# Altium footprint library IS-uIG-1.PcbLib: 1 footprints
Each footprint in its own frame and in the unit in brackets; x right, y up, seen from the top. Pads: shape width x height; smd on the part's side, far side on the other; paste and mask are expansions set on the pad; w line width, h text height; cw(c..) or ccw(c..) is an arc to the next point about the centre after c.
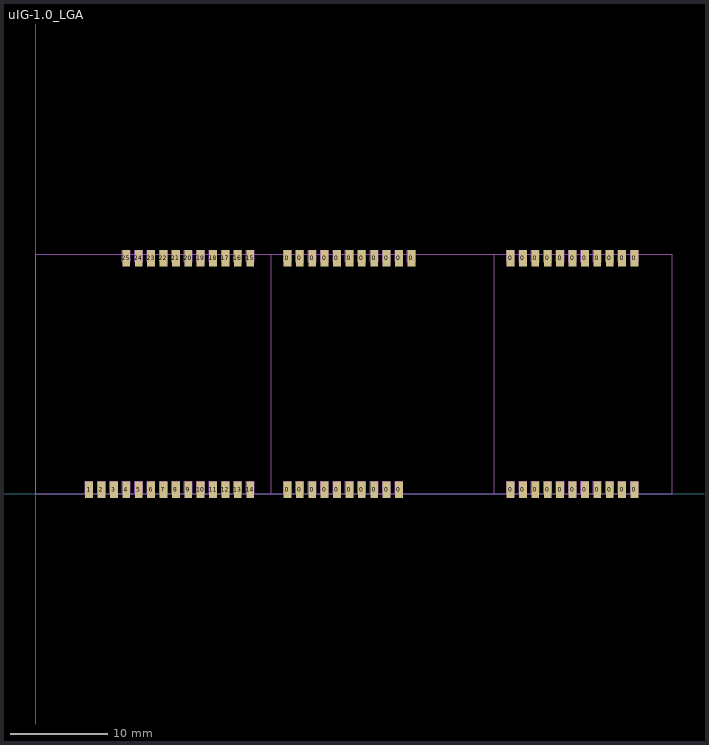
[diagram p0: the footprint, top view; thin cyan lines are the x and y axes]

## uIG-1.0_LGA [mm]
pads (68):
  rect 0.8x1.7 smd paste-2.54: 0(25.777,24.1) 0(25.777,0.4) 0(27.047,24.1) 0(27.047,0.4) 0(28.317,24.1) 0(28.317,0.4) 0(29.587,24.1) 0(29.587,0.4) 0(30.857,24.1) 0(30.857,0.4) 0(32.127,24.1) 0(32.127,0.4) 0(33.397,24.1) 0(33.397,0.4) 0(34.667,24.1) 0(34.667,0.4) 0(35.937,24.1) 0(35.937,0.4) 0(37.207,24.1) 0(37.207,0.4) 0(38.477,24.1) 0(48.637,24.1) 0(48.637,0.4) 0(49.907,24.1) 0(49.907,0.4) 0(51.177,24.1) 0(51.177,0.4) 0(52.447,24.1) 0(52.447,0.4) 0(53.717,24.1) 0(53.717,0.4) 0(54.987,24.1) 0(54.987,0.4) 0(56.257,24.1) 0(56.257,0.4) 0(57.527,24.1) 0(57.527,0.4) 0(58.797,24.1) 0(58.797,0.4) 0(60.067,24.1) 0(60.067,0.4) 0(61.337,24.1) 0(61.337,0.4) 1(5.457,0.4) 2(6.727,0.4) 3(7.997,0.4) 4(9.267,0.4) 5(10.537,0.4) 6(11.807,0.4) 7(13.077,0.4) 8(14.347,0.4) 9(15.617,0.4) 10(16.887,0.4) 11(18.157,0.4) 12(19.427,0.4) 13(20.697,0.4) 14(21.967,0.4) 15(21.967,24.1) 16(20.697,24.1) 17(19.427,24.1) 18(18.157,24.1) 19(16.887,24.1) 20(15.617,24.1) 21(14.347,24.1) 22(13.077,24.1) 23(11.807,24.1) 24(10.537,24.1) 25(9.267,24.1)
Mechanical 13:
  lines w0.127: 24.107,0 24.107,24.5 ; 46.967,0 46.967,24.5 ; 0,0 0,24.5 65.2,24.5 65.2,0 0,0
Mechanical 16:
  drawing of 408 lines, arcs and shapes, not listed
3D body "uIG-1.0.step": height 5.95, standoff 0.01, extent 0,0 65.2,25.688